# EAGLE library part WE-LAN-10/100/1000-BASE-T,POE,749023010A (library Wurth_Elektronik_Passive_rev16c)
LAN-Transformer WE-LAN 10/10/1000 Base Tx - Compliant with IEEE 802.3 standards - SMD -- Ethernet -- Power over Ethernet -- 1 Gigabit Ethernet -- Compliant with most IC's for ethernet applications like Intel, AMD, Globespan and Realtek -- Hub, Router, Switch <http://katalog.we-online.de/media/images/v2/Family_WE-LAN.jpg> Details see: http://katalog.we-online.de/en/pbs/WE-LAN/S/749023010? Updated by Dan Xu 2014-07-08 2014 (C) Würth Elektronik
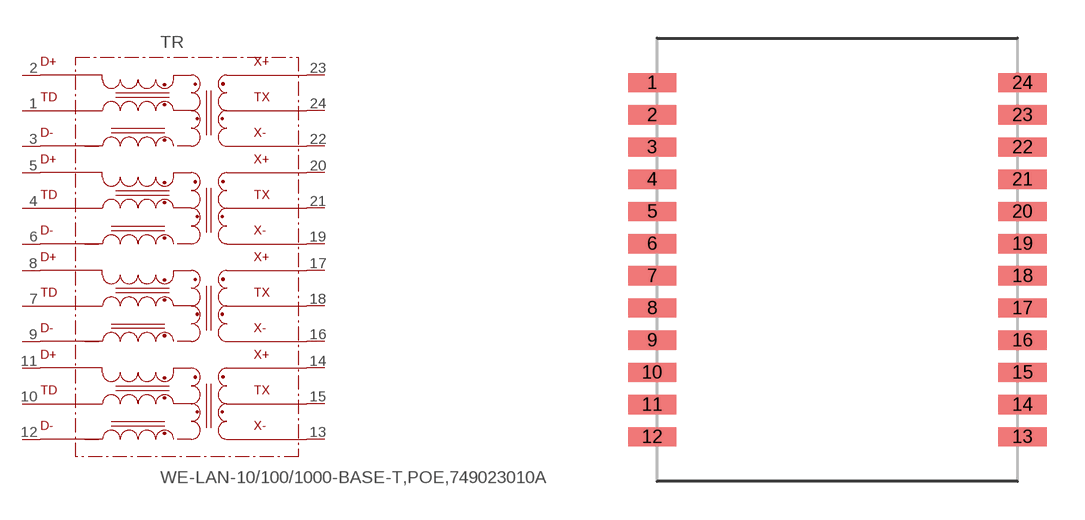
[diagram p125: symbol with the pads of 749023010A; footprint 749023010A]

Designator prefix TR

## WE-LAN-10/100/1000-BASE-T,POE,749023010A  [749023010A]
1  1
2  2
3  3
4  4
5  5
6  6
7  7
8  8
9  9
10  10
11  11
12  12
13  13
14  14
15  15
16  16
17  17
18  18
19  19
20  20
21  21
22  22
23  23
24  24

## Footprint 749023010A (pad centres in mm)
MAX Height = 6.5 mm
smd 1.9 x 0.76: 1 -7.3,6.985; 2 -7.3,5.715; 3 -7.3,4.445; 4 -7.3,3.175; 5 -7.3,1.905; 6 -7.3,0.635; 7 -7.3,-0.635; 8 -7.3,-1.905; 9 -7.3,-3.175; 10 -7.3,-4.445; 11 -7.3,-5.715; 12 -7.3,-6.985; 13 7.3,-6.985; 14 7.3,-5.715; 15 7.3,-4.445; 16 7.3,-3.175; 17 7.3,-1.905; 18 7.3,-0.635; 19 7.3,0.635; 20 7.3,1.905; 21 7.3,3.175; 22 7.3,4.445; 23 7.3,5.715; 24 7.3,6.985